# Altium schematic symbol library THT_Potantiometer_Sch.SchLib: 1 symbol
Pins are listed as number, name and electrical type; pins without a type are passive.

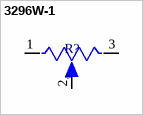
[diagram p0: symbol 3296W-1]

## 3296W-1
designator R?
1 MOhms 0.5W, 1/2W PC Pins Through Hole Trimmer Potentiometer Cermet 25 Turn Top Adjustment; MP: 3296W-1-105; MF: Bourns; Price: None; SnapEDA_Link: https://www.snapeda.com/parts/3296W-1-105/Bourns/view-part/1463228/?ref=snap; Availability: Unavailable; Value: *; Package: SOT-23-5 Bourns
footprint TRIM_3296W-1
pins: 1 CCW, 2 WIPER, 3 CW